# Altium footprint library Active.PcbLib: 36 footprints (part 2 of 3)
Each footprint in its own frame and in the unit in brackets; x right, y up, seen from the top. Pads: shape width x height; smd on the part's side, far side on the other; paste and mask are expansions set on the pad; w line width, h text height; cw(c..) or ccw(c..) is an arc to the next point about the centre after c.
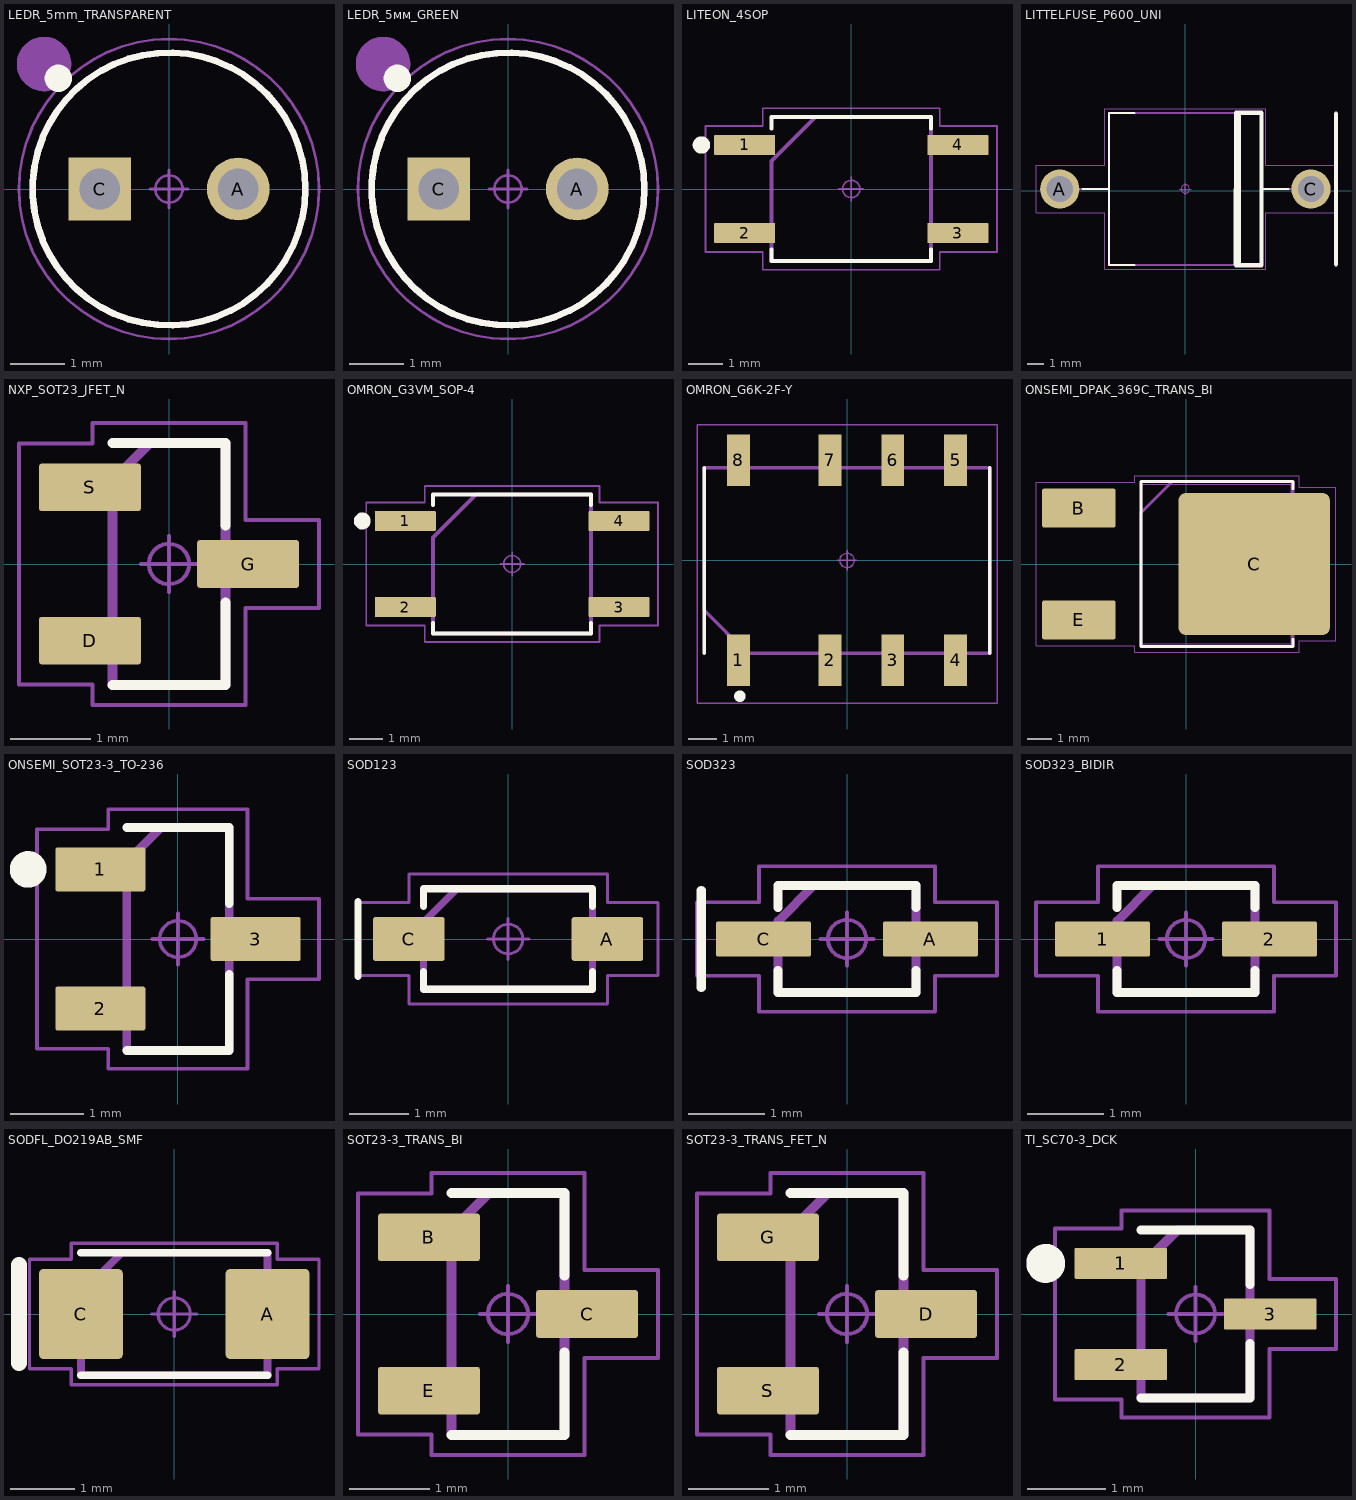
[diagram p1: the footprints below, top view; thin cyan lines are the x and y axes]

## LEDR_5mm_TRANSPARENT [mm] "Radial (LED); 2.54 mm C X 5.00 mm Dia X 8.6 mm H body"
pads (2):
  round 1.15 hole 0.75 paste-2539.97: A(1.27,0)
  rect 1.15x1.15 hole 0.75 paste-2539.97: C(-1.27,0)
Top Overlay:
  circle w0.25: c-2.029,2.029 r0.125
  circle w0.12: c0,0 r2.5
Mechanical 11:
  circle w0.5: c-2.291,2.291 r0.25
  circle w0.12: c0,0 r2.5
  text ".Designator" at -2.251,-0.226 h1
Mechanical 15:
  circle w0.05: c0,0 r0.25
  circle w0.05: c0,0 r2.75
  lines w0.05: -0.35,0 0.35,0 ; 0,-0.35 0,0.35
3D body "Светодиод красный L-1503SRC-D.stp": height 28.6, standoff 0, extent -2.5,-2.496 2.5,2.496

## LEDR_5мм_GREEN [mm] "Radial (LED); 2.54 mm C X 5.00 mm Dia X 8.6 mm H body"
pads (2):
  round 1.15 hole 0.75 paste-2539.97: A(1.27,0)
  rect 1.15x1.15 hole 0.75 paste-2539.97: C(-1.27,0)
Top Overlay:
  circle w0.12: c0,0 r2.5
  circle w0.25: c-2.029,2.029 r0.125
Mechanical 11:
  circle w0.12: c0,0 r2.5
  circle w0.5: c-2.291,2.291 r0.25
  text ".Designator" at -2.251,-0.226 h1
Mechanical 15:
  circle w0.05: c0,0 r2.75
  circle w0.05: c0,0 r0.25
  lines w0.05: -0.35,0 0.35,0 ; 0,-0.35 0,0.35
3D body "Светодиод зеленый L-1503GT.stp": height 28.6, standoff 0, extent -2.5,-2.496 2.5,2.496

## LITEON_4SOP [mm] "Small Outline IC (SOIC), 2.54 mm pitch; 4 pin, 3.85 mm L X 4.40 mm W X 2.20 mm H body"
pads (4):
  rrect10% 1.76x0.59 smd: 1(-3.075,1.27) 2(-3.075,-1.27) 3(3.075,-1.27) 4(3.075,1.27)
Top Overlay:
  circle w0.25: c-4.325,1.27 r0.125
  lines w0.12: -2.3,-1.745 -2.3,-2.08 2.3,-2.08 2.3,-1.745 ; -2.3,1.745 -2.3,2.08 2.3,2.08 2.3,1.745
Mechanical 11:
  lines w0.12: -2.3,-2.08 2.3,-2.08 2.3,2.08 -1.03,2.08 -2.3,0.81 -2.3,-2.08
  text ".Designator" at -4.502,-0.452 h2
Mechanical 15:
  circle w0.05: c0,0 r0.25
  lines w0.05: -0.35,0 0.35,0 ; 0,-0.35 0,0.35 ; -4.205,-1.815 -2.55,-1.815 -2.55,-2.33 2.55,-2.33 2.55,-1.815 4.205,-1.815 4.205,1.815 2.55,1.815 2.55,2.33 -2.55,2.33 -2.55,1.815 -4.205,1.815 -4.205,-1.815
3D body "LITEON_4SOP.STEP": height 2.2, standoff 0, extent -3.6,-2.075 3.6,2.075

## LITTELFUSE_P600_UNI [mm]
pads (2):
  round 2.34 hole 1.56 paste-2539.97: A(-7.5,0.1) C(7.5,0.1)
Top Overlay:
  lines w0.12: -6.15,0.1 -4.55,0.1 ; -3.03,-4.45 -4.55,-4.45 -4.55,4.65 -3.03,4.65 ; 3.03,-4.45 4.55,-4.45 4.55,4.65 3.03,4.65 ; 4.55,0.1 6.15,0.1
  lines w0.25: 3,-4.4 3.03,4.65 4.55,4.65 4.55,-4.45 3.03,-4.45 ; 3.2,-4.4 3.2,4.6 ; 9,-4.4 9,4.6
Mechanical 11:
  lines w0.12: -6.33,0.1 -4.55,0.1 ; 4.55,0.1 6.33,0.1 ; -4.55,-4.45 4.55,-4.45 4.55,4.65 -4.55,4.65 -4.55,-4.45
  text ".Designator" at -6.762,-0.579 h3
Mechanical 15:
  circle w0.05: c0,0.1 r0.25
  lines w0.05: -0.35,0.1 0.35,0.1 ; 0,-0.25 0,0.45 ; -8.92,-1.32 -4.8,-1.32 -4.8,-4.7 4.8,-4.7 4.8,-1.32 8.92,-1.32 8.92,1.52 4.8,1.52 4.8,4.9 -4.8,4.9 -4.8,1.52 -8.92,1.52 -8.92,-1.32
3D body "LITTELFUSE_P600.STEP": height 10, standoff -2, extent -8.18,-4.45 8.18,4.65

## NXP_SOT23_JFET_N [mm] "SOT23 NXP JFET Transistor N-channel"
pads (3):
  rrect10% 1.26x0.59 smd: D(-0.98,-0.95) G(0.98,0) S(-0.98,0.95)
Top Overlay:
  lines w0.12: -0.7,-1.5 0.7,-1.5 0.7,-0.475 ; -0.7,1.5 0.7,1.5 0.7,0.475
Mechanical 11:
  lines w0.12: -0.7,-1.5 0.7,-1.5 0.7,1.5 -0.233,1.5 -0.7,1.033 -0.7,-1.5
  text ".Designator" at 0.226,-2.251 h1
Mechanical 15:
  circle w0.05: c0,0 r0.25
  lines w0.05: -0.35,0 0.35,0 ; 0,-0.35 0,0.35 ; -1.86,-1.495 -0.95,-1.495 -0.95,-1.75 0.95,-1.75 0.95,-0.545 1.86,-0.545 1.86,0.545 0.95,0.545 0.95,1.75 -0.95,1.75 -0.95,1.495 -1.86,1.495 -1.86,-1.495
3D body "SOT23-3_TRANS_BI.STEP": height 1.1, standoff 0, extent -1.25,-1.5 1.25,1.5

## OMRON_G3VM_SOP-4 [mm] "Small Outline IC (SOIC), 2.54 mm pitch; 4 pin, 3.90 mm L X 4.40 mm W X 2.10 mm H body"
pads (4):
  rrect10% 1.8x0.59 smd: 1(-3.155,1.27) 2(-3.155,-1.27) 3(3.155,-1.27) 4(3.155,1.27)
Top Overlay:
  circle w0.25: c-4.425,1.27 r0.125
  lines w0.12: -2.33,-1.745 -2.33,-2.05 2.33,-2.05 2.33,-1.745 ; -2.33,1.745 -2.33,2.05 2.33,2.05 2.33,1.745
Mechanical 11:
  lines w0.12: -2.33,-2.05 2.33,-2.05 2.33,2.05 -1.06,2.05 -2.33,0.78 -2.33,-2.05
  text ".Designator" at -4.502,-0.452 h2
Mechanical 15:
  circle w0.05: c0,0 r0.25
  lines w0.05: -0.35,0 0.35,0 ; 0,-0.35 0,0.35 ; -4.305,-1.815 -2.58,-1.815 -2.58,-2.3 2.58,-2.3 2.58,-1.815 4.305,-1.815 4.305,1.815 2.58,1.815 2.58,2.3 -2.58,2.3 -2.58,1.815 -4.305,1.815 -4.305,-1.815
3D body "OMRON_G3VM_SOP-4.STEP": height 2.1, standoff 0, extent -3.7,-2.05 3.7,2.05

## OMRON_G6K-2F-Y [mm]
pads (8):
  rect 0.8x1.8 smd: 1(-3.8,-3.5) 2(-0.6,-3.5) 3(1.6,-3.5) 4(3.8,-3.5) 5(3.8,3.5) 6(1.6,3.5) 7(-0.6,3.5) 8(-3.8,3.5)
Top Overlay:
  lines w0.12: -5,-3.25 -5,3.25 ; 5,-3.25 5,3.25
  lines w0.2: -3.75,-4.85 ccw(c-3.75,-4.75) -3.75,-4.65 ccw(c-3.75,-4.75) -3.75,-4.85
Mechanical 11:
  lines w0.12: -5,-1.75 -3.5,-3.25 5,-3.25 5,3.25 -5,3.25 -5,-1.75
  text ".Designator" at -4.502,-0.452 h2
Mechanical 15:
  circle w0.05: c0,0 r0.25
  lines w0.05: -0.35,0 0.35,0 ; 0,-0.35 0,0.35 ; -5.25,-5 5.25,-5 5.25,4.75 -5.25,4.75 -5.25,-5
3D body "G6K-2F-Y-TR_DC5.stp": height 5.2, standoff 0, extent -5,-3.9 5,3.9

## ONSEMI_DPAK_369C_TRANS_BI [mm] "DPAK, 4.58 mm pitch; 3 pin, 6.095 mm L X 6.54 mm W X 2.38 mm H body"
pads (3):
  rrect10% 3x1.6 smd: B(-4.39,2.29) E(-4.39,-2.29)
  rrect10% 6.2x5.8 smd paste-6.2: C(2.79,0)
Top Overlay:
  lines w0.12: 4.373,-3.08 4.373,-3.37 -1.847,-3.37 -1.847,3.37 4.373,3.37 4.373,3.08
Top Paste:
  region: -0.02,-2.615 -0.02,-1.265 1.46,-1.265 1.46,-2.615
  region: 2.05,-2.615 2.05,-1.265 3.53,-1.265 3.53,-2.615
  region: 4.12,-2.615 4.12,-1.265 5.6,-1.265 5.6,-2.615
  region: -0.02,-0.675 -0.02,0.675 1.46,0.675 1.46,-0.675
  region: 2.05,-0.675 2.05,0.675 3.53,0.675 3.53,-0.675
  region: 4.12,-0.675 4.12,0.675 5.6,0.675 5.6,-0.675
  region: -0.02,1.265 -0.02,2.615 1.46,2.615 1.46,1.265
  region: 2.05,1.265 2.05,2.615 3.53,2.615 3.53,1.265
  region: 4.12,1.265 4.12,2.615 5.6,2.615 5.6,1.265
Mechanical 11:
  lines w0.12: -1.847,-3.37 -1.847,2.1 -0.577,3.37 4.373,3.37 4.373,-3.37 -1.847,-3.37
  text ".Designator" at -5.492,-0.679 h3
Mechanical 12:
  lines w0.025: -1.785,-3.27 -1.785,3.27 4.31,3.27 4.31,-3.27 -1.785,-3.27
Mechanical 15:
  circle w0.05: c0,0 r0.25
  lines w0.05: -0.35,0 0.35,0 ; 0,-0.35 0,0.35 ; -6.14,-3.34 -6.14,3.34 -2.1,3.34 -2.1,3.62 4.63,3.62 4.63,3.15 6.14,3.15 6.14,-3.15 4.63,-3.15 4.63,-3.62 -2.1,-3.62 -2.1,-3.34 -6.14,-3.34
3D body "ONSEMI_DPAK_369C.STEP": height 2.38, standoff 0, extent -5.205,-3.365 5.205,3.365

## ONSEMI_SOT23-3_TO-236 [mm] "Small Outline Transistor (SOT23), 0.95 mm pitch; 3 pin, 2.92 mm L X 1.30 mm W X 1.11 mm H body"
pads (3):
  rrect10% 1.23x0.6 smd: 1(-1.06,0.95) 2(-1.06,-0.95) 3(1.06,0)
Top Overlay:
  circle w0.25: c-2.045,0.95 r0.125
  lines w0.12: -0.7,-1.52 0.7,-1.52 0.7,-0.48 ; -0.7,1.52 0.7,1.52 0.7,0.48
Mechanical 11:
  lines w0.12: -0.7,-1.52 -0.7,1.053 -0.233,1.52 0.7,1.52 0.7,-1.52 -0.7,-1.52
  text ".Designator" at -2.251,-0.226 h1
Mechanical 15:
  circle w0.05: c0,0 r0.25
  lines w0.05: -0.35,0 0.35,0 ; 0,-0.35 0,0.35 ; -1.925,-1.5 -1.925,1.5 -0.95,1.5 -0.95,1.77 0.95,1.77 0.95,0.55 1.925,0.55 1.925,-0.55 0.95,-0.55 0.95,-1.77 -0.95,-1.77 -0.95,-1.5 -1.925,-1.5
3D body "ONSEMI_SOT23-3_TO-236.STEP": height 1.11, standoff 0, extent -1.32,-1.52 1.32,1.52

## SOD123 [mm] "Diode, Small Outline Diode (SOD); 2.70 mm L X 1.55 mm W X 1.35 mm H body"
pads (2):
  rrect10% 1.21x0.74 smd: A(1.68,0) C(-1.68,0)
Top Overlay:
  lines w0.12: -2.54,-0.635 -2.54,0.635 ; -1.43,-0.55 -1.43,-0.85 1.43,-0.85 1.43,-0.55 ; -1.43,0.55 -1.43,0.85 1.43,0.85 1.43,0.55
Mechanical 11:
  lines w0.12: -1.43,-0.85 -1.43,0.283 -0.863,0.85 1.43,0.85 1.43,-0.85 -1.43,-0.85
  text ".Designator" at -2.251,-0.226 h1
Mechanical 15:
  circle w0.05: c0,0 r0.25
  lines w0.05: -0.35,0 0.35,0 ; 0,-0.35 0,0.35 ; -2.535,-0.62 -2.535,0.62 -1.68,0.62 -1.68,1.1 1.68,1.1 1.68,0.62 2.535,0.62 2.535,-0.62 1.68,-0.62 1.68,-1.1 -1.68,-1.1 -1.68,-0.62 -2.535,-0.62
3D body "SOD-123.STEP": height 1.35, standoff 0, extent -1.925,-0.85 1.925,0.85

## SOD323 [mm] "Diode, Small Outline Diode (SOD); 1.70 mm L X 1.30 mm W X 1.10 mm H body"
pads (2):
  rrect10% 1.24x0.46 smd: A(1.09,0) C(-1.09,0)
Top Overlay:
  lines w0.12: -1.905,-0.635 -1.905,0.635 ; -0.9,-0.41 -0.9,-0.7 0.9,-0.7 0.9,-0.41 ; -0.9,0.41 -0.9,0.7 0.9,0.7 0.9,0.41
Mechanical 11:
  lines w0.12: -0.9,-0.7 -0.9,0.233 -0.433,0.7 0.9,0.7 0.9,-0.7 -0.9,-0.7
  text ".Designator" at -2.251,-0.226 h1
Mechanical 15:
  circle w0.05: c0,0 r0.25
  lines w0.05: -0.35,0 0.35,0 ; 0,-0.35 0,0.35 ; -1.96,-0.48 -1.96,0.48 -1.15,0.48 -1.15,0.95 1.15,0.95 1.15,0.48 1.96,0.48 1.96,-0.48 1.15,-0.48 1.15,-0.95 -1.15,-0.95 -1.15,-0.48 -1.96,-0.48
3D body "SOD323.STEP": height 1.1, standoff 0, extent -1.35,-0.7 1.35,0.7

## SOD323_BIDIR [mm]
pads (2):
  rrect10% 1.24x0.46 smd: 1(-1.09,0) 2(1.09,0)
Top Overlay:
  lines w0.12: -0.9,-0.41 -0.9,-0.7 0.9,-0.7 0.9,-0.41 ; -0.9,0.41 -0.9,0.7 0.9,0.7 0.9,0.41
Mechanical 11:
  lines w0.12: -0.9,-0.7 0.9,-0.7 0.9,0.7 -0.433,0.7 -0.9,0.233 -0.9,-0.7
  text ".Designator" at -2.251,-0.226 h1
Mechanical 15:
  circle w0.05: c0,0 r0.25
  lines w0.05: -0.35,0 0.35,0 ; 0,-0.35 0,0.35 ; -1.96,-0.48 -1.15,-0.48 -1.15,-0.95 1.15,-0.95 1.15,-0.48 1.96,-0.48 1.96,0.48 1.15,0.48 1.15,0.95 -1.15,0.95 -1.15,0.48 -1.96,0.48 -1.96,-0.48
3D body "SOD323.STEP": height 1.1, standoff 0, extent -1.35,-0.7 1.35,0.7

## SODFL_DO219AB_SMF [mm] "Diode, Small Outline Diode Flat Lead (SODFL); 2.80 mm L X 1.80 mm W X 1.08 mm H body"
pads (2):
  rrect10% 1.3x1.4 smd: A(1.45,0) C(-1.45,0)
Top Overlay:
  lines w0.12: -1.45,-0.95 1.45,-0.95 ; -1.45,0.95 1.45,0.95
  lines w0.25: -2.413,-0.762 -2.413,0.762
Mechanical 11:
  lines w0.12: -1.45,-0.95 1.45,-0.95 1.45,0.95 -0.817,0.95 -1.45,0.317 -1.45,-0.95
  text ".Designator" at -2.251,-0.226 h1
Mechanical 15:
  circle w0.05: c0,0 r0.25
  lines w0.05: -0.35,0 0.35,0 ; 0,-0.35 0,0.35 ; -2.25,-0.85 -1.6,-0.85 -1.6,-1.1 1.6,-1.1 1.6,-0.85 2.25,-0.85 2.25,0.85 1.6,0.85 1.6,1.1 -1.6,1.1 -1.6,0.85 -2.25,0.85 -2.25,-0.85
3D body "SODFL_DO219AB_SMF.STEP": height 1.08, standoff 0, extent -1.95,-0.95 1.95,0.95

## SOT23-3_TRANS_BI [mm] "Small Outline Transistor (SOT23), 0.95 mm pitch; 3 pin, 2.90 mm L X 1.30 mm W X 1.10 mm H body"
pads (3):
  rrect10% 1.26x0.59 smd: B(-0.98,0.95) C(0.98,0) E(-0.98,-0.95)
Top Overlay:
  lines w0.12: -0.7,-1.5 0.7,-1.5 0.7,-0.475 ; -0.7,1.5 0.7,1.5 0.7,0.475
Mechanical 11:
  lines w0.12: -0.7,-1.5 0.7,-1.5 0.7,1.5 -0.233,1.5 -0.7,1.033 -0.7,-1.5
  text ".Designator" at 0.226,-2.251 h1
Mechanical 15:
  circle w0.05: c0,0 r0.25
  lines w0.05: -0.35,0 0.35,0 ; 0,-0.35 0,0.35 ; -1.86,-1.495 -0.95,-1.495 -0.95,-1.75 0.95,-1.75 0.95,-0.545 1.86,-0.545 1.86,0.545 0.95,0.545 0.95,1.75 -0.95,1.75 -0.95,1.495 -1.86,1.495 -1.86,-1.495
3D body "SOT23-3_TRANS_BI.STEP": height 1.1, standoff 0, extent -1.25,-1.5 1.25,1.5

## SOT23-3_TRANS_FET_N [mm] "Small Outline Transistor (SOT23), 0.95 mm pitch; 3 pin, 2.90 mm L X 1.30 mm W X 1.10 mm H body"
pads (3):
  rrect10% 1.26x0.59 smd: D(0.98,0) G(-0.98,0.95) S(-0.98,-0.95)
Top Overlay:
  lines w0.12: -0.7,-1.5 0.7,-1.5 0.7,-0.475 ; -0.7,1.5 0.7,1.5 0.7,0.475
Mechanical 11:
  lines w0.12: -0.7,-1.5 0.7,-1.5 0.7,1.5 -0.233,1.5 -0.7,1.033 -0.7,-1.5
  text ".Designator" at 0.226,-2.251 h1
Mechanical 15:
  circle w0.05: c0,0 r0.25
  lines w0.05: -0.35,0 0.35,0 ; 0,-0.35 0,0.35 ; -1.86,-1.495 -0.95,-1.495 -0.95,-1.75 0.95,-1.75 0.95,-0.545 1.86,-0.545 1.86,0.545 0.95,0.545 0.95,1.75 -0.95,1.75 -0.95,1.495 -1.86,1.495 -1.86,-1.495
3D body "SOT23-3_TRANS_BI.STEP": height 1.1, standoff 0, extent -1.25,-1.5 1.25,1.5

## TI_SC70-3_DCK [mm] "Small Outline Transistor (SOT23), 0.65 mm pitch; 3 pin, 2.00 mm L X 1.25 mm W X 1.10 mm H body"
pads (3):
  rrect10% 1.19x0.4 smd: 1(-0.96,0.65) 2(-0.96,-0.65) 3(0.96,0)
Top Overlay:
  circle w0.25: c-1.925,0.65 r0.125
  lines w0.12: -0.7,-1.08 0.7,-1.08 0.7,-0.38 ; -0.7,1.08 0.7,1.08 0.7,0.38
Mechanical 11:
  lines w0.12: -0.7,-1.08 -0.7,0.613 -0.233,1.08 0.7,1.08 0.7,-1.08 -0.7,-1.08
  text ".Designator" at 0.226,-2.251 h1
Mechanical 15:
  circle w0.05: c0,0 r0.25
  lines w0.05: -0.35,0 0.35,0 ; 0,-0.35 0,0.35 ; -1.805,-1.1 -1.805,1.1 -0.95,1.1 -0.95,1.33 0.95,1.33 0.95,0.45 1.805,0.45 1.805,-0.45 0.95,-0.45 0.95,-1.33 -0.95,-1.33 -0.95,-1.1 -1.805,-1.1
3D body "TI_SC70-3_DCK.STEP": height 1.1, standoff 0, extent -1.2,-1.075 1.2,1.075